# Altium footprint library my2-02-UnalmisAtwood.PcbLib: 1 footprints
Each footprint in its own frame and in the unit in brackets; x right, y up, seen from the top. Pads: shape width x height; smd on the part's side, far side on the other; paste and mask are expansions set on the pad; w line width, h text height; cw(c..) or ccw(c..) is an arc to the next point about the centre after c.
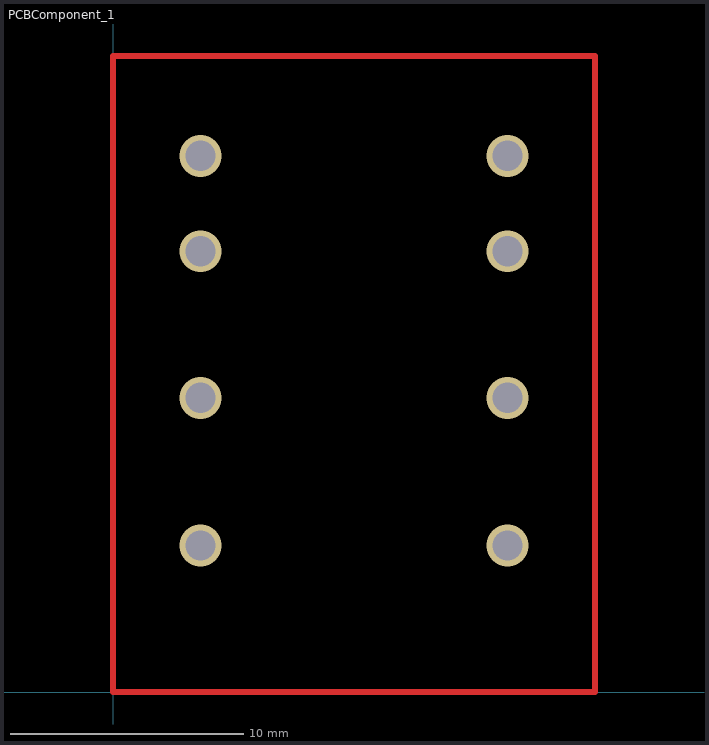
[diagram p0: the footprint, top view; thin cyan lines are the x and y axes]

## PCBComponent_1 [mm]
via 16.95,12.65 diameter 1.8 hole 1.3
via 3.75,6.3 diameter 1.8 hole 1.3
via 16.95,23.05 diameter 1.8 hole 1.3
via 3.75,23.05 diameter 1.8 hole 1.3
via 16.95,18.95 diameter 1.8 hole 1.3
via 3.75,12.65 diameter 1.8 hole 1.3
via 16.95,6.3 diameter 1.8 hole 1.3
via 3.75,18.95 diameter 1.8 hole 1.3
Top Layer:
  lines w0.254: 0,0 20.7,0 20.7,27.35 0,27.35 0,0